# Altium schematic symbol library SN74HC244N.SchLib: 1 symbol
Pins are listed as number, name and electrical type; pins without a type are passive.

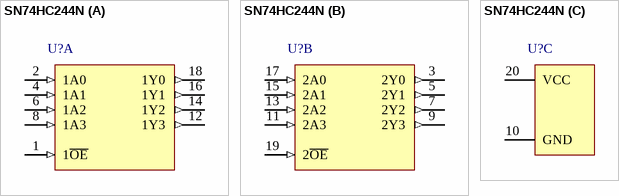
[diagram p0: symbol SN74HC244N]

## SN74HC244N
designator U?
part A pins: 1 1~{OE} (in), 2 1A0 (in), 4 1A1 (in), 6 1A2 (in), 8 1A3 (in), 12 1Y3 (out), 14 1Y2 (out), 16 1Y1 (out), 18 1Y0 (out)
part B pins: 3 2Y0 (out), 5 2Y1 (out), 7 2Y2 (out), 9 2Y3 (out), 11 2A3 (in), 13 2A2 (in), 15 2A1 (in), 17 2A0 (in), 19 2~{OE} (in)
part C pins: 10 GND (power), 20 VCC (power)